# Altium schematic symbol library CONN-12.SchLib: 1 symbol
Pins are listed as number, name and electrical type; pins without a type are passive.

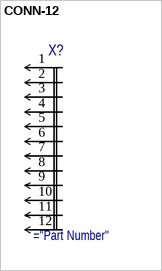
[diagram p0: symbol CONN-12]

## CONN-12
designator X?
pins: 1, 2, 3, 4, 5, 6, 7, 8, 9, 10, 11, 12